# Altium schematic symbol library SCH - POWER - SWITCHMODE - TI TPS51315_RGF_40.SchLib: 1 symbol
Pins are listed as number, name and electrical type; pins without a type are passive.

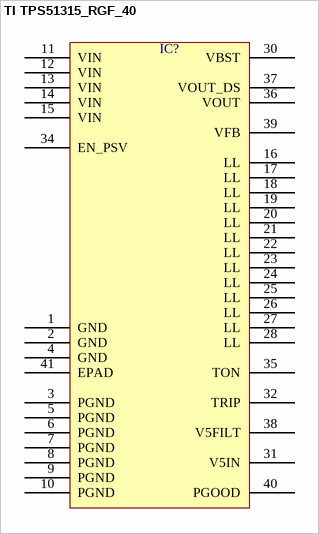
[diagram p0: symbol TI TPS51315_RGF_40]

## TI TPS51315_RGF_40
designator IC?  (value not drawn)
pins: 1 GND, 2 GND, 3 PGND, 4 GND, 5 PGND, 6 PGND, 7 PGND, 8 PGND, 9 PGND, 10 PGND, 11 VIN, 12 VIN, 13 VIN, 14 VIN, 15 VIN, 16 LL, 17 LL, 18 LL, 19 LL, 20 LL, 21 LL, 22 LL, 23 LL, 24 LL, 25 LL, 26 LL, 27 LL, 28 LL, 30 VBST, 31 V5IN, 32 TRIP, 34 EN_PSV, 35 TON, 36 VOUT, 37 VOUT_DS, 38 V5FILT, 39 VFB, 40 PGOOD, 41 EPAD